# Altium schematic symbol library DM-USB2CAN.SCHLIB: 25 symbols
Pins are listed as number, name and electrical type; pins without a type are passive.

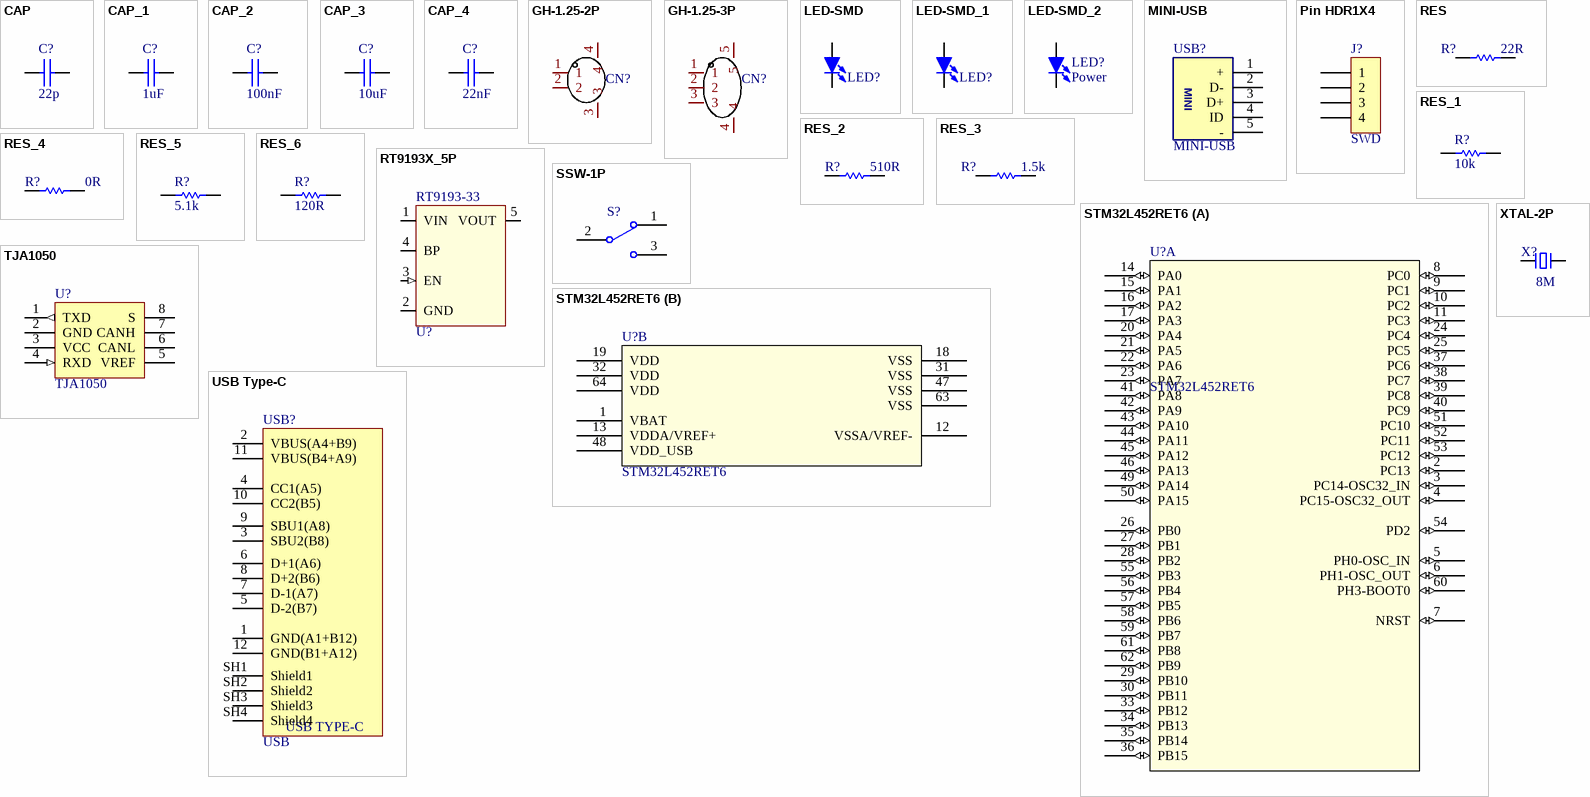
[diagram p0: symbols CAP to XTAL-2P]

## CAP
designator C?, comment 22p
无极性电容
footprint C 0603_L (无极性贴片电容                                       淘宝ID:黄晶宝石)
pins: 1, 2

## CAP_1
designator C?, comment 1uF
无极性电容
footprint C 0603_L (无极性贴片电容                                       淘宝ID:黄晶宝石)
pins: 1, 2

## CAP_2
designator C?, comment 100nF
无极性电容
footprint C 0603_L (无极性贴片电容                                       淘宝ID:黄晶宝石)
pins: 1, 2

## CAP_3
designator C?, comment 10uF
无极性电容
footprint C 0603_L (无极性贴片电容                                       淘宝ID:黄晶宝石)
pins: 1, 2

## CAP_4
designator C?, comment 22nF
无极性电容
footprint C 0603_L (无极性贴片电容                                       淘宝ID:黄晶宝石)
pins: 1, 2

## GH-1.25-2P
designator CN?  (value not drawn)
footprint GH1.25-LT-2P (GH1.25 2P 立贴插座                   联系卖家 免费查找封装)
footprint GH1.25-WT-2P (GH1.25 2P 卧贴插座                   联系卖家 免费查找封装)
pins: 1, 2, 3, 4

## GH-1.25-3P
designator CN?  (value not drawn)
footprint GH1.25-WT-3P
footprint GH1.25-LT-3P
pins: 1, 2, 3, 4, 5

## LED-SMD
designator LED?, comment CAN_TX  (value not drawn)
贴片LED; 版权归属: 封装库来自淘宝 ID：黄晶宝石; BOM名称: 贴片LED; 学习资源: https://shop463601444.taobao.com
footprint LED 0603W (白色0603LED)
footprint LED 0603R (红色0603LED)
footprint LED 0603B (蓝色0603LED)
footprint LED 0603G (绿色0603LED)
footprint LED 0603Y (黄色0603LED)
footprint LED 0805G (绿色0805LED)
footprint LED 0805R (红色0805LED)
footprint LED 0805B (蓝色0805LED)
footprint LED 0805Y (黄色0805LED)
footprint LED 3528-2Pin (2脚，3528LED)
footprint LED 1206G (绿色1206LED)
footprint LED 5730-V (紫色5730LED)
footprint LED 1206Y (黄色1206LED)
footprint LED 0805W (白色0805LED)
footprint LED 1206B (蓝色1206LED)
footprint LED 1206W (白色1206LED)
footprint LED 1206R (红色1206LED)
pins: 1 A, 2 K

## LED-SMD_1
designator LED?, comment CAN_RX  (value not drawn)
贴片LED; 版权归属: 封装库来自淘宝 ID：黄晶宝石; BOM名称: 贴片LED; 学习资源: https://shop463601444.taobao.com
footprint LED 0603W (白色0603LED)
footprint LED 0603R (红色0603LED)
footprint LED 0603B (蓝色0603LED)
footprint LED 0603G (绿色0603LED)
footprint LED 0603Y (黄色0603LED)
footprint LED 0805G (绿色0805LED)
footprint LED 0805R (红色0805LED)
footprint LED 0805B (蓝色0805LED)
footprint LED 0805Y (黄色0805LED)
footprint LED 3528-2Pin (2脚，3528LED)
footprint LED 1206G (绿色1206LED)
footprint LED 5730-V (紫色5730LED)
footprint LED 1206Y (黄色1206LED)
footprint LED 0805W (白色0805LED)
footprint LED 1206B (蓝色1206LED)
footprint LED 1206W (白色1206LED)
footprint LED 1206R (红色1206LED)
pins: 1 A, 2 K

## LED-SMD_2
designator LED?, comment Power
贴片LED; 版权归属: 封装库来自淘宝 ID：黄晶宝石; BOM名称: 贴片LED; 学习资源: https://shop463601444.taobao.com
footprint LED 0603W (白色0603LED)
footprint LED 0603R (红色0603LED)
footprint LED 0603B (蓝色0603LED)
footprint LED 0603G (绿色0603LED)
footprint LED 0603Y (黄色0603LED)
footprint LED 0805G (绿色0805LED)
footprint LED 0805R (红色0805LED)
footprint LED 0805B (蓝色0805LED)
footprint LED 0805Y (黄色0805LED)
footprint LED 3528-2Pin (2脚，3528LED)
footprint LED 1206G (绿色1206LED)
footprint LED 5730-V (紫色5730LED)
footprint LED 1206Y (黄色1206LED)
footprint LED 0805W (白色0805LED)
footprint LED 1206B (蓝色1206LED)
footprint LED 1206W (白色1206LED)
footprint LED 1206R (红色1206LED)
pins: 1 A, 2 K

## MINI-USB
designator USB?
footprint USB-MINI-A
pins: 1 +, 2 D-, 3 D+, 4 ID, 5 -
text: MINI

## Pin HDR1X4
designator J?, comment SWD
footprint Pin HDR1X4/2.54mm-S
footprint Pin HDR1X4/2.54mm-W (Connector; Header; 4 Position; Right Angle)
pins: 1, 2, 3, 4

## RES
designator R?, comment 22R
footprint 0603R
pins: 1, 2

## RES_1
designator R?, comment 10k
footprint 0603R
pins: 1, 2

## RES_2
designator R?, comment 510R
footprint 0603R
pins: 1, 2

## RES_3
designator R?, comment 1.5k
footprint 0603R
pins: 1, 2

## RES_4
designator R?, comment 0R
footprint 0603R
pins: 1, 2

## RES_5
designator R?, comment 5.1k
footprint 0603R
pins: 1, 2

## RES_6
designator R?, comment 120R
footprint 0603R
pins: 1, 2

## RT9193X_5P
designator U?, comment RT9193-33
ICA_MFR_NAME: RICHTEK; ICA_PARTNUM: $$2191094$$RT9193-15CU5; Part Number: TMP-13
footprint SOT23-5L (3x1.6x1.1mm(长宽高) 封装库来自淘宝卖家 ID：黄晶宝石)
pins: 1 VIN (power), 2 GND (power), 3 EN (in), 4 BP, 5 VOUT (power)

## SSW-1P
designator S?, comment SS-12F23  (value not drawn)
1路波动开关; BOM名称: 波动开关; 版权归属: 封装库来自淘宝 ID：黄晶宝石; 学习资源: https://shop463601444.taobao.com
footprint SS-12F23
footprint SS-12D10
footprint MSK-12C01-07 (6.7*2.8*1.5mm(长宽高）)
footprint SK12D07VG3
pins: 1, 2, 3

## STM32L452RET6
designator U?
No Description Available; Mfr_Name: STMicroelectronics; RefDes: RefDes; Type: Type
footprint LQFP64-10*10 (10x10mm，0.5mm       淘宝ID:黄晶宝石)
part A pins: 2 PC13 (io), 3 PC14-OSC32_IN (io), 4 PC15-OSC32_OUT (io), 5 PH0-OSC_IN (io), 6 PH1-OSC_OUT (io), 7 NRST (io), 8 PC0 (io), 9 PC1 (io), 10 PC2 (io), 11 PC3 (io), 14 PA0 (io), 15 PA1 (io), 16 PA2 (io), 17 PA3 (io), 20 PA4 (io), 21 PA5 (io), 22 PA6 (io), 23 PA7 (io), 24 PC4 (io), 25 PC5 (io), 26 PB0 (io), 27 PB1 (io), 28 PB2 (io), 29 PB10 (io), 30 PB11 (io), 33 PB12 (io), 34 PB13 (io), 35 PB14 (io), 36 PB15 (io), 37 PC6 (io), 38 PC7 (io), 39 PC8 (io), 40 PC9 (io), 41 PA8 (io), 42 PA9 (io), 43 PA10 (io), 44 PA11 (io), 45 PA12 (io), 46 PA13 (io), 49 PA14 (io), 50 PA15 (io), 51 PC10 (io), 52 PC11 (io), 53 PC12 (io), 54 PD2 (io), 55 PB3 (io), 56 PB4 (io), 57 PB5 (io), 58 PB6 (io), 59 PB7 (io), 60 PH3-BOOT0 (io), 61 PB8 (io), 62 PB9 (io)
part B pins: 1 VBAT (power), 12 VSSA/VREF- (power), 13 VDDA/VREF+ (power), 18 VSS (power), 19 VDD (power), 31 VSS (power), 32 VDD (power), 47 VSS (power), 48 VDD_USB (power), 63 VSS (power), 64 VDD (power)

## TJA1050
designator U?
CAN总线收发芯片; 版权归属: 封装库来自淘宝 ID：黄晶宝石; BOM名称: CAN总线收发芯片; 学习资源: https://shop463601444.taobao.com
footprint SOP8_L (5*6*1.8mm（长宽高）)
footprint SOP8_N (5*6*1.8mm（长宽高）)
footprint SOP8_M (5*6*1.8mm（长宽高）)
pins: 1 TXD (out), 2 GND, 3 VCC, 4 RXD (in), 5 VREF, 6 CANL, 7 CANH, 8 S

## USB Type-C
designator USB?, comment USB
12P TypeC 母座
footprint USB Type-C
footprint USB Type-C (USB Type-C 12P/16P)
footprint USB Type-C (USB Type-C 12P/16P)
pins: 1 GND(A1+B12), 2 VBUS(A4+B9), 3 SBU2(B8), 4 CC1(A5), 5 D-2(B7), 6 D+1(A6), 7 D-1(A7), 8 D+2(B6), 9 SBU1(A8), 10 CC2(B5), 11 VBUS(B4+A9), 12 GND(B1+A12), SH1 Shield1, SH2 Shield2, SH3 Shield3, SH4 Shield4
text: USB TYPE-C

## XTAL-2P
designator X?, comment 8M
2脚无源脚晶振
footprint OSC HC-49S
footprint OSC 455E-LI (3.6mm*7mm*9mm(长*宽*高)  脚距5mm)
footprint OSC 455E-WI (3.6mm*7mm*9mm(长*宽*高)  脚距5mm)
footprint OSC 3215-2P (3.2*1.5*0.6mm(长宽高))
footprint OSC 5032-2P (5mm*3.2mm*0.8mm(长*宽*高))
footprint OSC 6035-2P (6mm*3.5mm*1mm(长*宽*高))
footprint OSC 7050-2P (7mm*5mm*1.3mm(长*宽*高))
footprint OSC 8045-2P (8mm*4.5mm*1.8mm(长*宽*高))
footprint OSC-2x6-LI (脚距：1.6mm)
footprint OSC-2x6-WI-A (脚距：1.6mm)
footprint OSC-2x6-WI-B (脚距：1.6mm)
footprint OSC-2x6-WS (脚距：1.6mm)
footprint OSC-3x8-LI (脚距：2mm)
footprint OSC-3x8-WI-A (脚距：2mm)
footprint OSC-3x8-WI-B (脚距：2mm)
footprint OSC-3x8-WS (脚距：2mm)
footprint OSC-3x10-LI (脚距：2mm)
footprint OSC-3x10-WI-A (脚距：2mm)
footprint OSC-3x10-WI-B (脚距：2mm)
footprint OSC-3x10-WS (脚距：2mm)
footprint OSC HC-49SMD
footprint OSC HC-49U
footprint OSC UM-1
footprint OSC UM-5
pins: 1, 2